# Altium integrated library ST Video Horz Processor Deflector.IntLib: 5 symbols
Pins are listed as number, name and electrical type; pins without a type are passive.

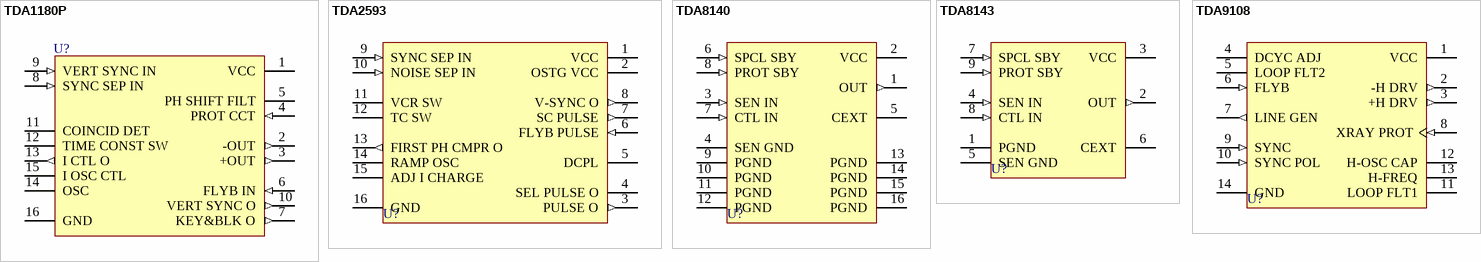
[diagram p0: symbols TDA1180P to TDA9108]

## TDA1180P
designator U?
TV Horizontal Processor; Published: 24-Aug-2001; LatestRevisionDate: 06-Jun-2005; LatestRevisionNote: Stylized 3D Model Added.; DatasheetVersion: May-1993; PackageVersion: Apr-1996; PackageReference: DIP16; Publisher: Altium Limited; PackageDescription: DIP; 16 Leads; Row Spacing 7.62 mm; Pitch 2.54 mm; ComponentLink1Description: Manufacturer Link; ComponentLink1URL: http://www.st.com/
footprint DIP16 (DIP; 16 Leads; Row Spacing 7.62 mm; Pitch 2.54 mm)
3D model DIP16 (DIP; 16 Leads; Row Spacing 7.62 mm; Pitch 2.54 mm)
pins: 1 VCC (power), 2 -OUT (out), 3 +OUT (out), 4 PROT CCT (in), 5 PH SHIFT FILT, 6 FLYB IN (in), 7 KEY&BLK O (out), 8 SYNC SEP IN (in), 9 VERT SYNC IN (in), 10 VERT SYNC O (out), 11 COINCID DET, 12 TIME CONST SW, 13 I CTL O (out), 14 OSC, 15 I OSC CTL, 16 GND (power)

## TDA2593
designator U?
Synchro and Horizontal Deflection Control for Colour TV Set; Published: 24-Aug-2001; LatestRevisionDate: 06-Jun-2005; LatestRevisionNote: Stylized 3D Model Added.; DatasheetVersion: Sep-1993; PackageVersion: Apr-1996; PackageReference: DIP16; Publisher: Altium Limited; PackageDescription: DIP; 16 Leads; Row Spacing 7.62 mm; Pitch 2.54 mm; ComponentLink1Description: Manufacturer Link; ComponentLink1URL: http://www.st.com/
footprint DIP16 (DIP; 16 Leads; Row Spacing 7.62 mm; Pitch 2.54 mm)
3D model DIP16 (DIP; 16 Leads; Row Spacing 7.62 mm; Pitch 2.54 mm)
pins: 1 VCC (power), 2 OSTG VCC (power), 3 PULSE O (out), 4 SEL PULSE O, 5 DCPL, 6 FLYB PULSE (in), 7 SC PULSE (out), 8 V-SYNC O (out), 9 SYNC SEP IN (in), 10 NOISE SEP IN (in), 11 VCR SW, 12 TC SW, 13 FIRST PH CMPR O (out), 14 RAMP OSC, 15 ADJ I CHARGE, 16 GND (power)

## TDA8140
designator U?
Horizontal Deflection Power Driver; Published: 24-Aug-2001; LatestRevisionDate: 06-Jun-2005; LatestRevisionNote: Stylized 3D Model Added.; DatasheetVersion: Sep-1993; PackageVersion: Apr-1996; PackageReference: DIP16; Publisher: Altium Limited; PackageDescription: DIP; 16 Leads; Row Spacing 7.62 mm; Pitch 2.54 mm; ComponentLink1Description: Manufacturer Link; ComponentLink1URL: http://www.st.com/
footprint DIP16 (DIP; 16 Leads; Row Spacing 7.62 mm; Pitch 2.54 mm)
3D model DIP16 (DIP; 16 Leads; Row Spacing 7.62 mm; Pitch 2.54 mm)
pins: 1 OUT (out), 2 VCC (power), 3 SEN IN (in), 4 SEN GND (power), 5 CEXT, 6 SPCL SBY (in), 7 CTL IN (in), 8 PROT SBY (in), 9 PGND (power), 10 PGND (power), 11 PGND (power), 12 PGND (power), 13 PGND (power), 14 PGND (power), 15 PGND (power), 16 PGND (power)

## TDA8143
designator U?
Horizontal Deflection Power Driver; Published: 24-Aug-2001; LatestRevisionDate: 17-Jul-2002; LatestRevisionNote: Re-released for DXP Platform.; DatasheetVersion: Sep-1993; PackageVersion: Oct-1997; PackageReference: SIP9; Publisher: Altium Limited; PackageDescription: TO, Thru-Hole, Vertical, Heatsink Mounted; 9 In-Line Leads; Pitch 2.54 mm; ComponentLink1Description: Manufacturer Link; ComponentLink1URL: http://www.st.com/
footprint SIP9 (TO, Thru-Hole, Vertical, Heatsink Mounted; 9 In-Line Leads; Pitch 2.54 mm)
pins: 1 PGND (power), 2 OUT (out), 3 VCC (power), 4 SEN IN (in), 5 SEN GND (power), 6 CEXT, 7 SPCL SBY (in), 8 CTL IN (in), 9 PROT SBY (in)

## TDA9108
designator U?
Monitor Horizontal Processor; Published: 24-Aug-2001; LatestRevisionDate: 06-Jun-2005; LatestRevisionNote: Stylized 3D Model Added.; DatasheetVersion: Oct-1993; PackageVersion: Jan-1997; PackageReference: DIP14; Publisher: Altium Limited; PackageDescription: DIP; 14 Leads; Row Spacing 7.62 mm; Pitch 2.54 mm; ComponentLink1Description: Manufacturer Link; ComponentLink1URL: http://www.st.com/
footprint DIP14 (DIP; 14 Leads; Row Spacing 7.62 mm; Pitch 2.54 mm)
3D model DIP14 (DIP; 14 Leads; Row Spacing 7.62 mm; Pitch 2.54 mm)
pins: 1 VCC (power), 2 -H DRV (out), 3 +H DRV (out), 4 DCYC ADJ, 5 LOOP FLT2, 6 FLYB (in), 7 LINE GEN (out), 8 XRAY PROT (in), 9 SYNC (in), 10 SYNC POL (in), 11 LOOP FLT1, 12 H-OSC CAP, 13 H-FREQ, 14 GND (power)